# EAGLE library part 24LCXXB (library 24LCXXB)
None
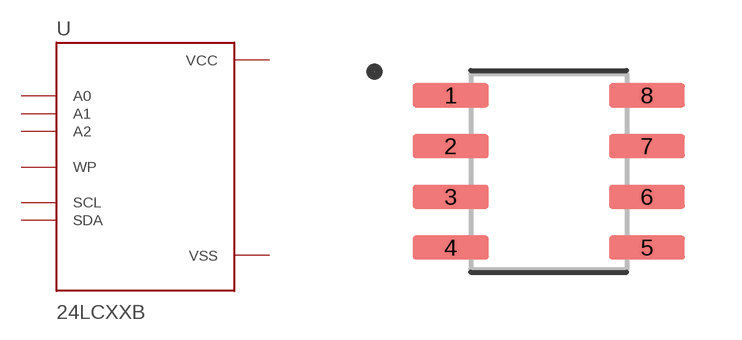
[diagram p0: symbol with the pads of 8SOIC; footprint 8SOIC]

Designator prefix U

## 24LCXXB (AVAILABILITY: Unavailable; DESCRIPTION: EEPROM Memory IC 2Kb _256 x 8_ I²C 1MHz 450ns 8-SOIC; MF: Microchip Technology; MP: AT24C02C-SSPD-T; PACKAGE: SOIC-8 Microchip Technology; PRICE: None)  [8SOIC]
1  A0  in
2  A1  in
3  A2  in
4  VSS  pwr
5  SDA
6  SCL  in
7  WP  in
8  VCC  pwr

## Footprint 8SOIC (pad centres in mm)
smd 1.9 x 0.6: 1 -2.455,1.905; 2 -2.455,0.635; 3 -2.455,-0.635; 4 -2.455,-1.905; 5 2.455,-1.905; 6 2.455,-0.635; 7 2.455,0.635; 8 2.455,1.905